# Altium footprint library PCB - LED - LED 5050 BRG.PCBLIB: 1 footprints
Each footprint in its own frame and in the unit in brackets; x right, y up, seen from the top. Pads: shape width x height; smd on the part's side, far side on the other; paste and mask are expansions set on the pad; w line width, h text height; cw(c..) or ccw(c..) is an arc to the next point about the centre after c.
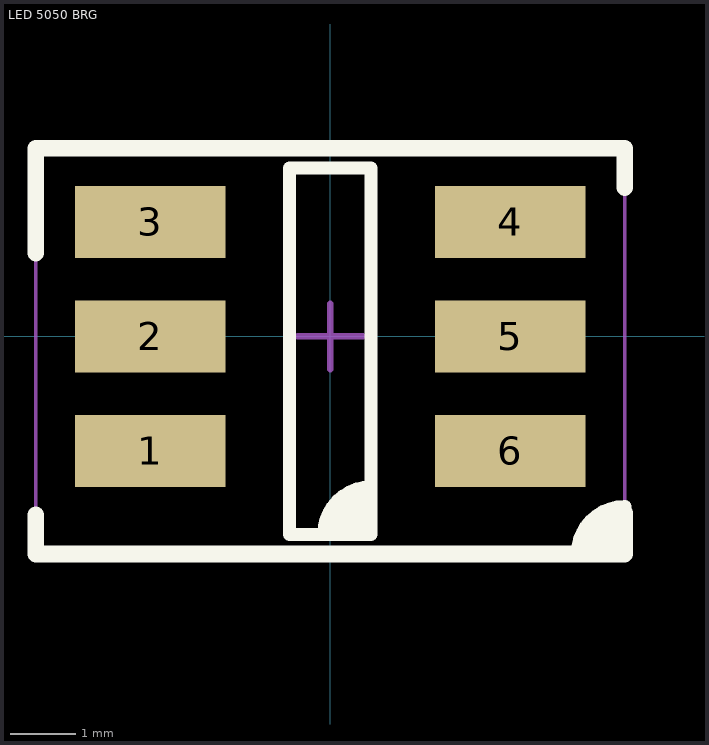
[diagram p0: the footprint, top view; thin cyan lines are the x and y axes]

## LED 5050 BRG [mm] "5050 BRG LED"
height 2.6
pads (6):
  rect 2.3x1.1 smd: 1(-2.75,-1.75) 2(-2.75,0) 3(-2.75,1.75) 4(2.75,1.75) 5(2.75,0) 6(2.75,-1.75)
Top Overlay:
  region: 0.625,-3.025 -0.125,-3.025 -0.125,-2.7 0.275,-2.3 0.625,-2.3
  region: 4.5,-3.325 3.75,-3.325 3.75,-3 4.15,-2.6 4.5,-2.6
  lines w0.2: -0.1,-3.025 cw(c0.625,-3.025) 0.625,-2.3 ; 3.775,-3.325 cw(c4.5,-3.325) 4.5,-2.6 ; -0.625,-3.025 0.625,-3.025 0.625,2.575 -0.625,2.575 -0.625,-3.025
  lines w0.254: -4.5,-2.725 -4.5,-3.325 4.5,-3.325 4.5,-2.7 ; -4.5,1.275 -4.5,2.875 4.5,2.875 4.5,2.275
Top Assembly:
  lines w0.05: -4.5,-3.4 4.5,-3.4 4.5,2.9 -4.5,2.9 -4.5,-3.4
  lines w0.1: -0.501,0 0.499,0 ; -0.001,-0.5 -0.001,0.5
Top Component Center:
  lines w0.1: -0.501,0 0.499,0 ; -0.001,-0.5 -0.001,0.5
Top Courtyard:
  lines w0.05: -4.5,-3.4 4.5,-3.4 4.5,2.9 -4.5,2.9 -4.5,-3.4
3D body "User Library-5050 RGB led.STEP": height 1.6, standoff 0, extent -2.77,-2.55 2.77,2.55